# Altium schematic symbol library Schlib1.SchLib: 21 symbols
Pins are listed as number, name and electrical type; pins without a type are passive.

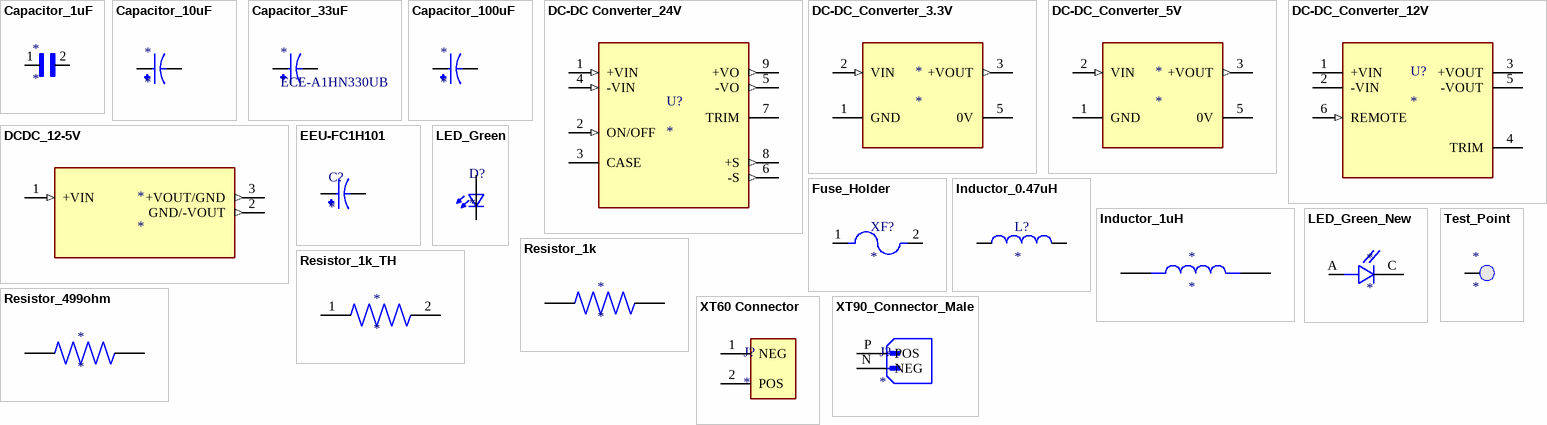
[diagram p0: symbols Capacitor_1uF to XT90_Connector_Male]

## Capacitor_1uF
designator *
Cap Ceramic 1uF 50V X5R 10% Radial 5mm 85C Ammo; Manufacturer: TDK; Manufacturer Part Number: FG28X5R1H105KRT06; Lead/Base Style: Kinked; Supplier 1: Arrow Electronics; Supplier Part Number 1: FG28X5R1H105KRT06; RoHS: Yes; Category: Ceramic Capacitors; Stock 1: 4381; Pricing 1: 1=0.32620, 10=0.20190, 25=0.19940, 100=0.13080, 250=0.12850, 500=0.09320, 1000=0.09090, 3000=0.07620 (USD); Mount: Through Hole; Case/Package: Radial; Min Operating Temperature: -55°C; Max Operating Temperature: 85°C; Packaging: Tape and Reel; Capacitance: 1uF; Voltage Rating: 50V; Tolerance: 10%; Length: 0.157inch; Width: 0.098inch; Height - Seated (Max): 0.217inch; Lead Pitch: 0.197inch; RoHS Compliant: Yes; ComponentLink1URL: https://product.tdk.com/info/en/catalog/datasheets/leadmlcc_halogenfree_fg_en.pdf?src-supplier=Digi-Key; ComponentLink1Description: https://product.tdk.com/info/en/catalog/datasheets/leadmlcc_halogenfree_fg_en.pdf?src-supplier=Digi-Key; ComponentLink2URL: https://product.tdk.com/info/en/documents/chara_sheet/FG28X5R1H105KRT06.pdf?src-supplier=Digi-Key; ComponentLink2Description: https://product.tdk.com/info/en/documents/chara_sheet/FG28X5R1H105KRT06.pdf?src-supplier=Digi-Key
footprint Capacitor_1uF
pins: 1, 2

## Capacitor_10uF
designator *
Cap Aluminum 10uF 50V 20% (6.3 X 5mm) Radial 2.5mm 35mA 1000 hr 85°C Bulk; Manufacturer: Panasonic; Manufacturer Part Number: ECE-A1HKS100; Polarity: Polar; Life (Hours): 1000Hour; Leakage Current: 3A; Lead Diameter: 0.45mm; Supplier 1: Arrow Electronics; Supplier Part Number 1: ECE-A1HKS100; RoHS: Yes; Category: Aluminum Electrolytic Capacitors; Stock 1: 3775; Pricing 1: 1=0.34520, 10=0.24180, 50=0.15970, 100=0.13540, 500=0.07970, 1000=0.07890, 2500=0.07540, 5000=0.07350 (USD); Mount: Through Hole,PCB; Case/Package: Radial; Number of Pins: 2; Weight: 0.01lb; Min Operating Temperature: -40°C; Max Operating Temperature: 85°C; Capacitance: 10uF; Packaging: Bulk; Ripple Current: 35mA; Tolerance: 20%; Voltage Rating: 50V; Package Quantity: 200; Voltage Rating (DC): 50V; Termination: Radial; Voltage: 50V; Series: KS; Construction: RADIAL; Ripple Current (AC): 35mA; Diameter: 6.3mm; Length: 5mm; Width: 0.5inch; Height: 5mm; Lead Pitch: 2.5mm; Height - Seated (Max): 0.197inch; Radiation Hardening: No; RoHS Compliant: Yes; REACH SVHC: No SVHC; Lead Free: Lead Free; ComponentLink1URL: https://datasheet.ciiva.com/11778/0900766b800274c4-11778985.pdf?src-supplier=RSComponents; ComponentLink1Description: https://datasheet.ciiva.com/11778/0900766b800274c4-11778985.pdf?src-supplier=RSComponents; ComponentLink2URL: https://datasheet.ciiva.com/2983/aba0000ce15-2983886.pdf?src-supplier=Avnet; ComponentLink2Description: https://datasheet.ciiva.com/2983/aba0000ce15-2983886.pdf?src-supplier=Avnet; ComponentLink3URL: https://datasheet.ciiva.com/43459/1339471-43459545.pdf?src-supplier=Farnell; ComponentLink3Description: https://datasheet.ciiva.com/43459/1339471-43459545.pdf?src-supplier=Farnell; ComponentLink4URL: https://datasheet.ciiva.com/24025/a-e-461514-24025641.pdf?src-supplier=Mouser; ComponentLink4Description: https://datasheet.ciiva.com/24025/a-e-461514-24025641.pdf?src-supplier=Mouser; ComponentLink5URL: https://datasheet.ciiva.com/16205/aba0000ce15-16205737.pdf?src-supplier=Future+Electronics; ComponentLink5Description: https://datasheet.ciiva.com/16205/aba0000ce15-16205737.pdf?src-supplier=Future+Electronics; ComponentLink6URL: https://datasheet.ciiva.com/46397/1339471-46397117.pdf?src-supplier=Element14; ComponentLink6Description: https://datasheet.ciiva.com/46397/1339471-46397117.pdf?src-supplier=Element14; ComponentLink7URL: https://datasheet.ciiva.com/15166/getdatasheetpartid-169217-15166123.pdf?src-supplier=Verical; ComponentLink7Description: https://datasheet.ciiva.com/15166/getdatasheetpartid-169217-15166123.pdf?src-supplier=Verical; ComponentLink8URL: https://datasheet.ciiva.com/14594/70067878-14594328.pdf?src-supplier=Allied+Electronics; ComponentLink8Description: https://datasheet.ciiva.com/14594/70067878-14594328.pdf?src-supplier=Allied+Electronics
footprint Capacitor_10uF
pins: N, P

## Capacitor_33uF
designator *, comment ECE-A1HN330UB
Cap Aluminum 33uF 50V 20% (8 X 11.5mm) Radial 5mm 110mA 2000 hr 85°C Ammo Pack; Manufacturer: Panasonic; Life (Hours): 2000Hour; Lead Diameter: 0.6mm; Supplier 1: Mouser; Supplier Part Number 1: 667-ECE-A1HN330UB; Manufacturer Part Number: ECE-A1HN330UB; RoHS: Yes; Category: Aluminum Electrolytic Capacitors; Stock 1: 2771; Pricing 1: 1=0.89000, 10=0.62500, 50=0.47300, 100=0.41200, 500=0.30500, 1000=0.25900, 10000=0.25900 (USD); Mount: Through Hole; Case/Package: Radial; Min Operating Temperature: -40°C; Max Operating Temperature: 85°C; Capacitance: 33uF; Tolerance: 20%; Ripple Current: 110mA; Package Quantity: 1000; Termination: Radial; Series: SU; Voltage Rating: 50V; Packaging: Ammo Pack; Voltage Rating (DC): 50V; Construction: RADIAL; Diameter: 8mm; Length: 11.5mm; Height: 11.5mm; Lead Pitch: 5mm; Height - Seated (Max): 0.492inch; Radiation Hardening: No; ComponentLink1URL: https://datasheet.ciiva.com/24043/aba0000ce97-24043933.pdf?src-supplier=Mouser; ComponentLink1Description: https://datasheet.ciiva.com/24043/aba0000ce97-24043933.pdf?src-supplier=Mouser
footprint Capacitor_33uF
pins: N, P

## Capacitor_100uF
designator *
Cap Aluminum Lytic 100uF 16V 20% (5 X 11mm) Radial 5mm 180mA 2000h 85C Automotive Ammo; Manufacturer: Panasonic; Manufacturer Part Number: ECA-1CM101B; Life (Hours): 2000Hour; Leakage Current: 3mA; Dissipation Factor: 0.2%; Lead/Base Style: Straight; Lead Diameter: 0.5mm; Supplier 1: Arrow Electronics; Supplier Part Number 1: ECA-1CM101B; RoHS: Yes; Category: Aluminum Electrolytic Capacitors; Stock 1: 3761; Pricing 1: 1=0.28870, 10=0.18780, 25=0.18590, 100=0.09900, 250=0.09800, 500=0.05120, 1000=0.04920, 3000=0.04870 (USD); Mount: Through Hole,PCB; Case/Package: Radial; Min Operating Temperature: -40°C; Max Operating Temperature: 85°C; Packaging: Ammo Pack; Package Quantity: 2000; Series: M; Capacitance: 100uF; Voltage Rating: 16V; Tolerance: 20%; Ripple Current: 180mA; Voltage Rating (DC): 16V; Termination: Radial; Voltage: 16V; Construction: RADIAL; Diameter: 5mm; Length: 11mm; Width: 0inch; Height: 11mm; Lead Pitch: 5mm; Height - Seated (Max): 0.472inch; Radiation Hardening: No; REACH SVHC: Unknown; Lead Free: Lead Free; RoHS Compliant: Yes; ComponentLink1URL: https://datasheet.ciiva.com/7803/aba0000ce12-7803672.pdf?src-supplier=Element14; ComponentLink1Description: https://datasheet.ciiva.com/7803/aba0000ce12-7803672.pdf?src-supplier=Element14; ComponentLink2URL: https://datasheet.ciiva.com/14608/70067785-14608475.pdf?src-supplier=Allied+Electronics; ComponentLink2Description: https://datasheet.ciiva.com/14608/70067785-14608475.pdf?src-supplier=Allied+Electronics
footprint Capacitor_100uF
pins: N, P

## DC-DC Converter_24V
designator U?
footprint DC-DC_Converter_24V
pins: 1 +VIN (in), 2 ON/OFF (in), 3 CASE, 4 -VIN (in), 5 -VO (out), 6 -S (out), 7 TRIM, 8 +S (out), 9 +VO (out)

## DC-DC_Converter_3.3V
designator *
3.3 Vdc, 2 A, 6.6 W, 6 to 36 Vdc Input Range; Manufacturer: CUI; Manufacturer Part Number: P7803-2000R-S; Supplier 1: Digi-Key; Supplier Part Number 1: 102-P7803-2000R-S-ND; Stock 1: 88; Pricing 1: 1=5.96000, 5=5.87200, 10=5.78600, 25=5.61600, 44=5.44591, 88=5.27568, 264=5.10557, 440=4.76518 (USD); ComponentLink1URL: https://datasheet.octopart.com/P7803-2000R-S-CUI-datasheet-165372030.pdf?src-supplier=CUI; ComponentLink1Description: https://datasheet.octopart.com/P7803-2000R-S-CUI-datasheet-165372030.pdf?src-supplier=CUI; ComponentLink2URL: https://datasheet.octopart.com/P7803-2000R-S-CUI-datasheet-165270846.pdf?src-supplier=Electro+Sonic; ComponentLink2Description: https://datasheet.octopart.com/P7803-2000R-S-CUI-datasheet-165270846.pdf?src-supplier=Electro+Sonic
footprint DC-DC_Converter_3.3V
pins: 1 GND (power), 2 VIN (in), 3 +VOUT (out), 5 0V (power)

## DC-DC_Converter_5V
designator *
5 Vdc, 2 A, 10 W, 8 to 36 Vdc Input Range; Manufacturer: CUI; Manufacturer Part Number: P7805-2000R-S; Supplier 1: DigiKey; Supplier Part Number 1: 102-P7805-2000R-S-ND; Stock 1: 17; Pricing 1: 1=5.96000, 5=5.87200, 10=5.78600, 25=5.61600, 44=5.44591, 88=5.27568, 264=5.10557, 440=4.76518 (USD); ComponentLink1URL: https://datasheet.octopart.com/P7805-2000R-S-CUI-datasheet-165372030.pdf?src-supplier=CUI; ComponentLink1Description: https://datasheet.octopart.com/P7805-2000R-S-CUI-datasheet-165372030.pdf?src-supplier=CUI; ComponentLink2URL: https://datasheet.octopart.com/P7805-2000R-S-CUI-datasheet-165270846.pdf?src-supplier=Electro+Sonic; ComponentLink2Description: https://datasheet.octopart.com/P7805-2000R-S-CUI-datasheet-165270846.pdf?src-supplier=Electro+Sonic
footprint DC-DC_Converter_5V
pins: 1 GND (power), 2 VIN (in), 3 +VOUT (out), 5 0V (power)

## DC-DC_Converter_12V
designator U?
Isolated Module DC DC Converter 1 Output 12V - - 2.5A 9V - 36V Input
footprint DC-DC_Converter_12V
pins: 1 +VIN (power), 2 -VIN (power), 3 +VOUT (power), 4 TRIM, 5 -VOUT (power), 6 REMOTE (in)

## DCDC_12-5V
designator *
VX78-500 Series 24 / 12 Vin ±5 Vout Non-Isolated DC Switching Regulator; Manufacturer: CUI; Manufacturer Part Number: VX7805-500; Number of Outputs: 1; Min Input Voltage: 6.5V; Max Input Voltage: 36V; Voltage - Output 1: 5V; Max Output Current: 500mA; Max Power Dissipation: 2.5W; Efficiency: 90%; Supplier 1: Arrow Electronics; Supplier Part Number 1: VX7805-500; RoHS: Yes; Category: Voltage Regulators - Switching; Stock 1: 35; Pricing 1: 1=2.82200, 5=2.75600, 10=2.68900, 25=2.50800, 43=2.39700, 86=2.37300, 258=2.22100, 473=2.13400 (USD); Mount: Through Hole; Case/Package: SIP; Min Operating Temperature: -40°C; Max Operating Temperature: 85°C; Packaging: Rail/Tube; RoHS Compliant: Yes; ComponentLink1URL: https://www.cui.com/product/resource/digikeypdf/vx78-500.pdf?src-supplier=Digi-Key; ComponentLink1Description: https://www.cui.com/product/resource/digikeypdf/vx78-500.pdf?src-supplier=Digi-Key
footprint DCDC_12-5V
pins: 1 +VIN (in), 2 GND/-VOUT (out), 3 +VOUT/GND (out)

## EEU-FC1H101
designator C?
100 µF 50 V Aluminum Electrolytic Capacitors Radial, Can - 3000 Hrs @ 105°C
footprint Capacitor_100uF
pins: N, P

## Fuse_Holder
designator XF?
Fuse Holder 80V 1 Circuit Blade Through Hole
footprint Fuse_Holder
pins: 1, 2

## Inductor_0.47uH
designator L?
470 nH Shielded Multilayer Inductor 35 mA 1.35Ohm Max 0603 (1608 Metric)
footprint Inductor_0.47uH
pins: 1, 2

## Inductor_1uH
designator *
Inductor Power Drum Core 1uH 20% 7.96MHz 20Q-Factor Ferrite 3.5A 0.013Ohm DCR RDL Automotive Box; Manufacturer: Abracon; Manufacturer Part Number: AIUR-03-1R0M; Shielding: Unshielded; DC Resistance (DCR): 13mR; Self Resonant Frequency: 150MHz; Saturation Current: 10A; Supplier 1: Digi-Key; Supplier Part Number 1: AIUR-03-1R0M-ND; RoHS: Yes; Category: Fixed Inductors; Stock 1: 764; Pricing 1: 1=0.55000, 10=0.47800, 25=0.44360, 50=0.37540, 100=0.34120, 250=0.32076, 500=0.28664, 1000=0.23205, 2500=0.21840 (USD); Mount: Through Hole; Case/Package: Radial; Core Material: Ferrite; Min Operating Temperature: -40°C; Max Operating Temperature: 85°C; Package Quantity: 1000; Current Rating: 3.5A; Tolerance: 20%; Packaging: Bulk; Inductance: 1uH; Test Frequency: 7.96MHz; Resistor Type: Wirewound; Series: AIUR-03; Height: 0.472inch; Height - Seated (Max): 0.472inch; RoHS Compliant: Yes; ComponentLink1URL: https://datasheet.ciiva.com/6705/aiur-03-6705766.pdf?src-supplier=Digi-Key; ComponentLink1Description: https://datasheet.ciiva.com/6705/aiur-03-6705766.pdf?src-supplier=Digi-Key
footprint Inductor_1uH
pins: 1, 2

## LED_Green
designator D?
Green 571nm LED Indication - Discrete 2V 0603 (1608 Metric)
footprint LED_Green
pins: 1 K2, 2 A2

## LED_Green_New
designator *
White high-intensity LED lamp, Color White, Vf 3.2 V, Radial-2, RoHS; Manufacturer: TT Optek; Manufacturer Part Number: OVLAW4CB7; Lens Color: Colorless; Lens Style: Dome,Clear,Round; Luminous Intensity: 6200mcd; Forward Voltage: 3.2V; Viewing Angle: 45°; Forward Current: 20mA; Lens Transparency: Clear; Lead Length: 26.6mm; Supplier 1: Arrow Electronics; Supplier Part Number 1: OVLAW4CB7; RoHS: Yes; Category: LEDs; Stock 1: 9; Pricing 1: 1=0.42860 (USD); Mount: Through Hole; Case/Package: Radial; Number of Pins: 1; Color: White; Min Operating Temperature: -40°C; Max Operating Temperature: 100°C; Package Quantity: 500; Packaging: Bulk; Illumination Color: White; Test Current: 20mA; Series: -; Height: 5.2mm; Lead Free: Lead Free; RoHS Compliant: Yes; REACH SVHC: No SVHC; ComponentLink1URL: https://datasheet.ciiva.com/2113/ovlaw4cb7-2113528.pdf?src-supplier=Digi-Key; ComponentLink1Description: https://datasheet.ciiva.com/2113/ovlaw4cb7-2113528.pdf?src-supplier=Digi-Key; ComponentLink2URL: https://datasheet.ciiva.com/13500/ovlaw4cb7-20369-13500840.pdf?src-supplier=Mouser; ComponentLink2Description: https://datasheet.ciiva.com/13500/ovlaw4cb7-20369-13500840.pdf?src-supplier=Mouser
footprint LED_Green_New
pins: A, C

## Resistor_1k
designator *
1 kOhms ±1% 0.1W, 1/10W Chip Resistor 0603 (1608 Metric) - Thick Film
footprint Resistor_1k
pins: 1, 2

## Resistor_1k_TH
designator *
Carbon Film Resistors - Through Hole 1K Ohm 5% 1/4W Res Carbon Film; Manufacturer: TE Connectivity; Manufacturer Part Number: 2-1623927-3; Power Rating: 250mW; Resistance: 1kR; Temperature Coefficient: -450ppm/°C; Supplier 1: Arrow Electronics; Supplier Part Number 1: CFR16J1K0; RoHS: Yes; Category: Through-Hole Resistors; Stock 1: 3327; Pricing 1: 1=0.06670, 10=0.05530, 25=0.03960, 50=0.03920, 100=0.02970, 250=0.02310, 500=0.01850, 1000=0.01310, 3000=0.01300 (USD); Mount: Through Hole; Case/Package: Conformal; Min Operating Temperature: -55°C; Max Operating Temperature: 155°C; Tolerance: 5%; Packaging: Cut Tape; Resistor Type: Carbon Film; Termination: Axial; Number of Terminations: 2; Series: CFR16, Neohm; Max Power Dissipation: 250mW; Package Quantity: 1; Construction: Cylindrical; Diameter: 1.85mm; Length: 3.5mm; Radiation Hardening: No; RoHS Compliant: Yes; Military Standard: Not; ComponentLink1URL: https://datasheet.ciiva.com/5477/ng-ds-1773195-c-207356-5477538.pdf?src-supplier=Mouser; ComponentLink1Description: https://datasheet.ciiva.com/5477/ng-ds-1773195-c-207356-5477538.pdf?src-supplier=Mouser; ComponentLink2URL: https://datasheet.ciiva.com/6533/eng-cd-1623927-ba-6533055.pdf?src-supplier=Digi-Key; ComponentLink2Description: https://datasheet.ciiva.com/6533/eng-cd-1623927-ba-6533055.pdf?src-supplier=Digi-Key; ComponentLink3URL: https://datasheet.ciiva.com/30240/eng-ds-1773195-e-30240795.pdf?src-supplier=Onlinecomponents.com; ComponentLink3Description: https://datasheet.ciiva.com/30240/eng-ds-1773195-e-30240795.pdf?src-supplier=Onlinecomponents.com
footprint Resistor_1k_TH
pins: 1, 2

## Resistor_499ohm
designator *
Res Metal Film 499 Ohm 1% 1/8W ±50ppm/°C 0.001% Conformal AXL Thru-Hole Bulk; Manufacturer: Vishay Dale; Manufacturer Part Number: RNC55H4990FSB14; Resistance: 499R; Max Power Dissipation: 125mW; Supplier 1: Arrow Electronics; Supplier Part Number 1: RNC55H4990FSB14; RoHS: No; Category: Through-Hole Resistors; Stock 1: 900; Pricing 1: 1=0.95140, 110=0.89920, 210=0.81550, 500=0.66460 (USD); Mount: Through Hole; Case/Package: Conformal; Contact Plating: Tin,Lead; Min Operating Temperature: -65°C; Max Operating Temperature: 175°C; Tolerance: 1%; Packaging: Bulk; Resistor Type: Metal Film; Temperature Coefficient: 50ppm/°C; Package Quantity: 100; Number of Terminations: 2; Failure Rate: 0.001%; Termination: Axial; Features: Moisture Resistant,Military,Weldable; Series: Military, MIL-PRF-55182/01, RNC55; Construction: Cylindrical; Diameter: 2.39mm; Length: 7.62mm; Width: 2.39mm; Radiation Hardening: No; Military Standard: MIL-PRF-55182; Lead Free: Contains Lead; RoHS Compliant: No; ComponentLink1URL: http://components.arrow.com/part/dataview/24914963S2489625N1082?src-supplier=Arrow+Electronics; ComponentLink1Description: http://components.arrow.com/part/dataview/24914963S2489625N1082?src-supplier=Arrow+Electronics; ComponentLink2URL: http://www.vishay.com/docs/31025/erc.pdf?src-supplier=Avnet; ComponentLink2Description: http://www.vishay.com/docs/31025/erc.pdf?src-supplier=Avnet; ComponentLink3URL: http://www.vishay.com/docs/31025/erc.pdf?src-supplier=Digi-Key; ComponentLink3Description: http://www.vishay.com/docs/31025/erc.pdf?src-supplier=Digi-Key
footprint Resistor_499ohm
pins: 1, 2

## Test_Point
designator *
Test point for testing whether it is working or not
footprint Test_Point
pins: 1 PAD

## XT60 Connector
designator J?
DC power connectors AMASS - XT60
footprint XT60_Connector
pins: 1 NEG, 2 POS

## XT90_Connector_Male
designator J?
DC power connectors AMASS - XT90
footprint XT90_Connector_Male
pins: N NEG, P POS